# Altium footprint library PBD-30.PcbLib: 1 footprints
Each footprint in its own frame and in the unit in brackets; x right, y up, seen from the top. Pads: shape width x height; smd on the part's side, far side on the other; paste and mask are expansions set on the pad; w line width, h text height; cw(c..) or ccw(c..) is an arc to the next point about the centre after c.
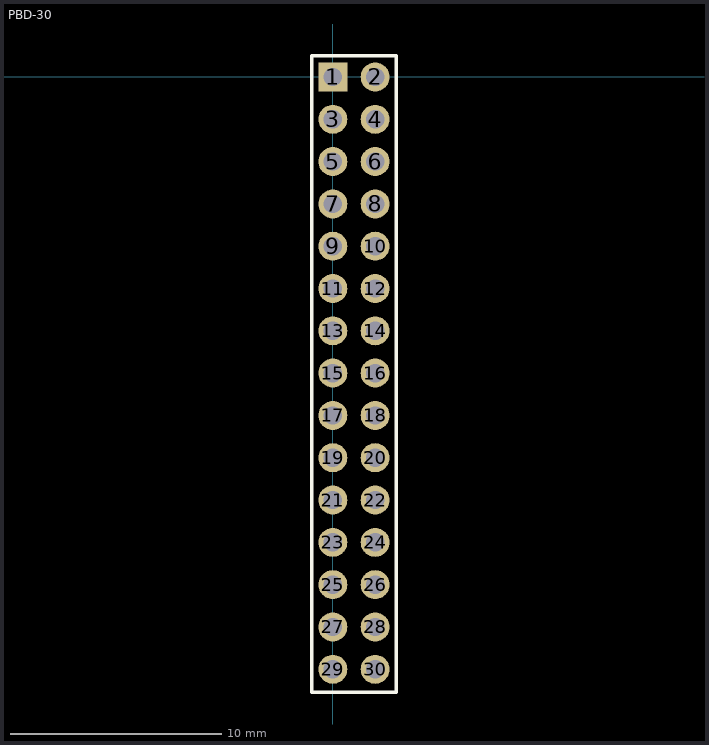
[diagram p0: the footprint, top view; thin cyan lines are the x and y axes]

## PBD-30 [mil]
pads (30):
  rect 54x54 hole 34: 1(0,0)
  round 54 hole 34: 2(78.74,0) 3(0,-78.74) 4(78.74,-78.74) 5(0,-157.48) 6(78.74,-157.48) 7(0,-236.22) 8(78.74,-236.22) 9(0,-314.96) 10(78.74,-314.96) 11(0,-393.7) 12(78.74,-393.7) 13(0,-472.44) 14(78.74,-472.44) 15(0,-551.18) 16(78.74,-551.18) 17(0,-629.92) 18(78.74,-629.92) 19(0,-708.66) 20(78.74,-708.66) 21(0,-787.4) 22(78.74,-787.4) 23(0,-866.14) 24(78.74,-866.14) 25(0,-944.88) 26(78.74,-944.88) 27(0,-1023.62) 28(78.74,-1023.62) 29(0,-1102.36) 30(78.74,-1102.36)
Top Overlay:
  lines w5.91: -39.37,-1145 118.11,-1145 118.11,39.37 -39.37,39.37 -39.37,-1145
3D body "PBD2-2x15.step": height 157.48, standoff -118.11, extent -40.71,-1141.1 120.71,40